# EAGLE library part 74XX126 (library logic-supply)
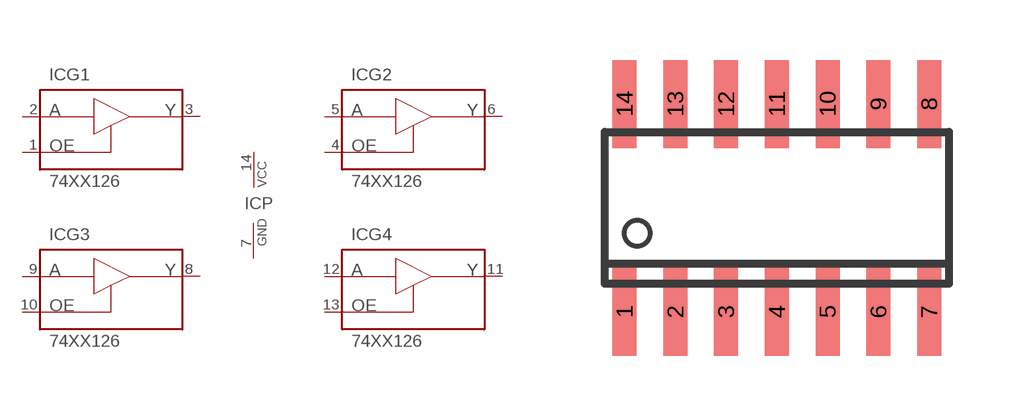
[diagram p31: symbol with the pads of SO14; footprint SO14]

Designator prefix IC; gates G1=74XX126 G2=74XX126 G3=74XX126 G4=74XX126 P=PWR

## 74XX126  [SO14]
1  G1:OE
2  G1:A
3  G1:Y
4  G2:OE
5  G2:A
6  G2:Y
7  P:GND  pwr
8  G3:Y
9  G3:A
10  G3:OE
11  G4:Y
12  G4:A
13  G4:OE
14  P:VCC  pwr

## Footprint SO14 (pad centres in mm)
From adafruit.lbr
smd 0.6 x 2.2: 1 -3.81,-2.6; 2 -2.54,-2.6; 3 -1.27,-2.6; 4 0,-2.6; 5 1.27,-2.6; 6 2.54,-2.6; 7 3.81,-2.6; 8 3.81,2.6; 9 2.54,2.6; 10 1.27,2.6; 11 0,2.6; 12 -1.27,2.6; 13 -2.54,2.6; 14 -3.81,2.6